# Altium footprint library TP_1mm.PcbLib: 1 footprints
Each footprint in its own frame and in the unit in brackets; x right, y up, seen from the top. Pads: shape width x height; smd on the part's side, far side on the other; paste and mask are expansions set on the pad; w line width, h text height; cw(c..) or ccw(c..) is an arc to the next point about the centre after c.
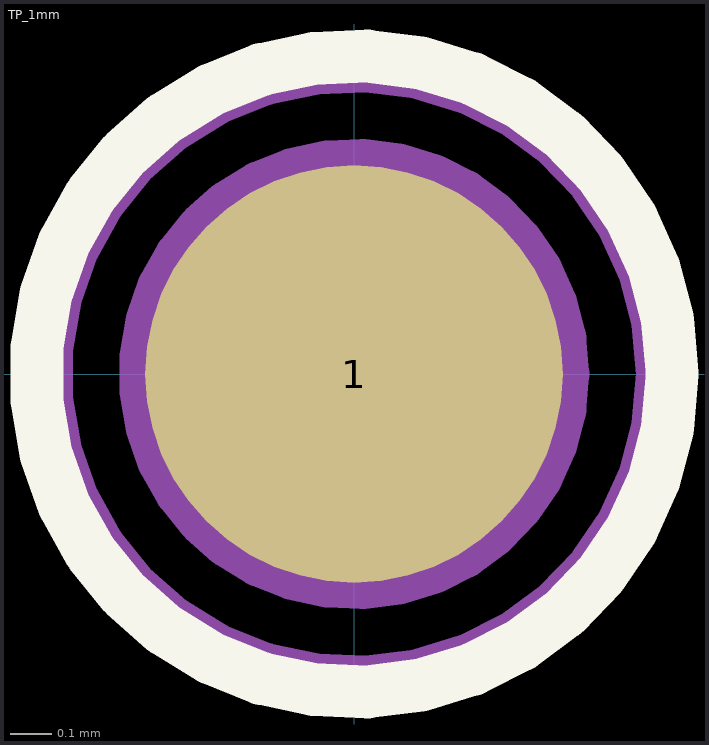
[diagram p0: the footprint, top view; thin cyan lines are the x and y axes]

## TP_1mm [mm]
pads (1):
  round 1 smd paste-1: 1(0,0)
Top Overlay:
  circle w0.127: c0,0 r0.762
Mechanical 1:
  circle w0.127: c0,0 r0.5
  text ".Designator" at 0.6,0.275 h0.38
Mechanical 15:
  circle w0.05: c0,0 r0.7
  lines w0.05: -0.254,0 0.254,0 ; 0,-0.254 0,0.254
3D body: height 0.01, standoff 0, extent -0.5,-0.5 0.5,0.5